# EAGLE library part THN_30-2412 (library THN_30-2412)
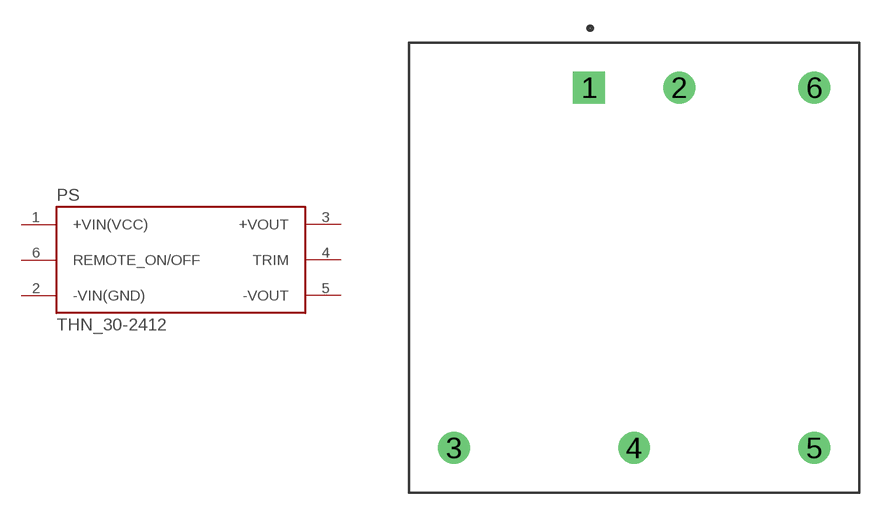
[diagram p0: symbol with the pads of CONV_THN_30-2412; footprint CONV_THN_30-2412]

Designator prefix PS

## THN_30-2412 (Description: 30 Watt DC/DC converter, industrial, 2:1 input, encpasulated, 1.0 x 1.0 metal package; Digi-Key_Part_Number: 1951-2307-ND; MF: Traco Power; MP: THN 30-2412; Package: 1&quot; X 1&quot; Traco Power; Purchase-URL: https://pricing.snapeda.com/search/part/THN 30-2412/?ref=eda)  [CONV_THN_30-2412]
1  +VIN(VCC)  in
2  -VIN(GND)  in
3  +VOUT  out
4  TRIM  pas
5  -VOUT  out
6  REMOTE_ON/OFF  in

## Footprint CONV_THN_30-2412 (pad centres in mm)
drill 1.2 pad 1.8 square: 1 -2.54,10.16
drill 1.2 pad 1.8: 2 2.54,10.16; 3 -10.16,-10.16; 4 0,-10.16; 5 10.16,-10.16; 6 10.16,10.16